# Altium footprint library SamacSys.PcbLib: 69 footprints (part 4 of 5)
Each footprint in its own frame and in the unit in brackets; x right, y up, seen from the top. Pads: shape width x height; smd on the part's side, far side on the other; paste and mask are expansions set on the pad; w line width, h text height; cw(c..) or ccw(c..) is an arc to the next point about the centre after c.
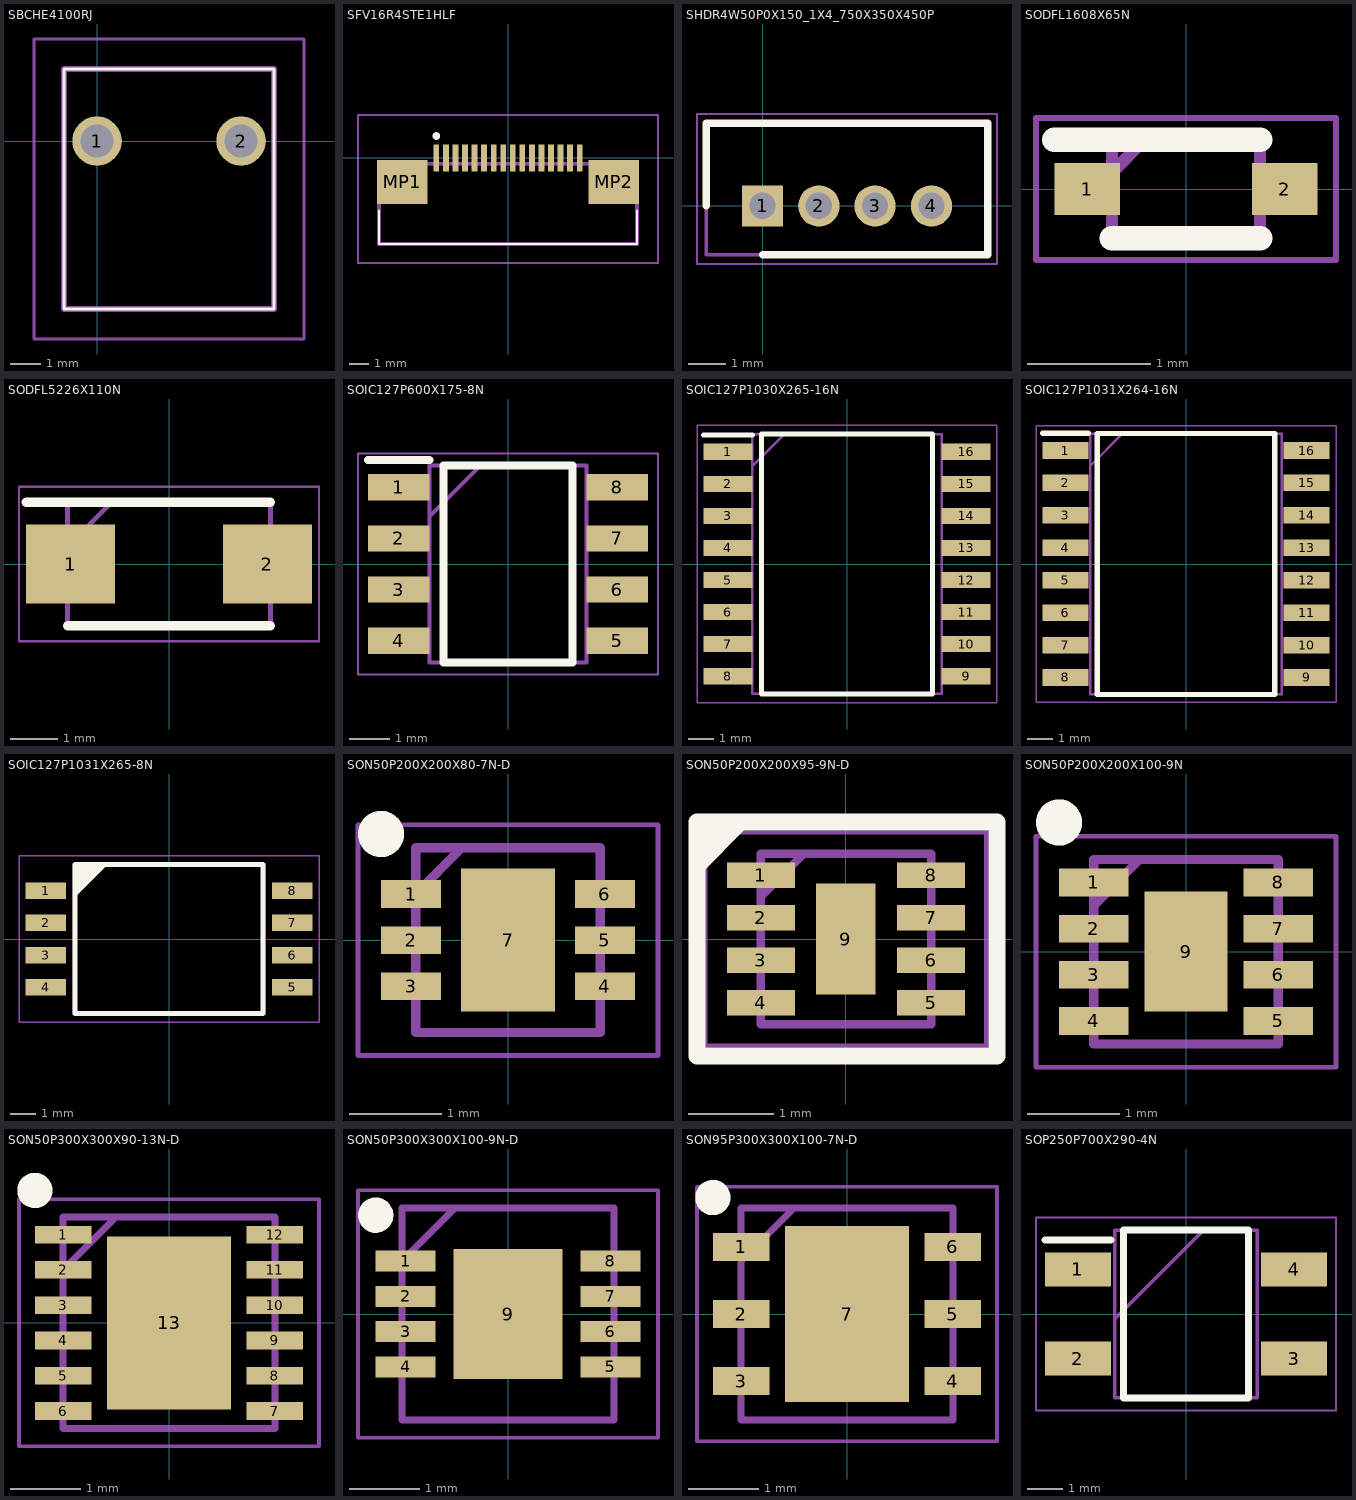
[diagram p3: the footprints below, top view; thin cyan lines are the x and y axes]

## SBCHE4100RJ [mm]
pads (2):
  round 1.65 hole 1.1: 1(0,0) 2(4.8,0)
Top Overlay:
  lines w0.1: -1.1,-5.6 -1.1,2.4 5.9,2.4 5.9,-5.6 -1.1,-5.6
Mechanical 13:
  lines w0.2: -1.1,-5.6 -1.1,2.4 5.9,2.4 5.9,-5.6 -1.1,-5.6
Mechanical 15:
  lines w0.1: -2.1,-6.6 -2.1,3.4 6.9,3.4 6.9,-6.6 -2.1,-6.6
3D body "SBCHE4100RJ.stp": height 20.1, standoff -5, extent -1.1,-5.6 5.9,2.4

## SFV16R4STE1HLF [mm]
pads (18):
  rect 0.3x1.4 smd: 1(-3.75,0) 2(-3.25,0) 3(-2.75,0) 4(-2.25,0) 5(-1.75,0) 6(-1.25,0) 7(-0.75,0) 8(-0.25,0) 9(0.25,0) 10(0.75,0) 11(1.25,0) 12(1.75,0) 13(2.25,0) 14(2.75,0) 15(3.25,0) 16(3.75,0)
  rect 2.65x2.3 smd: MP1(-5.525,-1.25) MP2(5.525,-1.25)
Top Overlay:
  lines w0.1: -6.75,-2.75 -6.75,-4.5 6.75,-4.5 6.75,-2.75
  lines w0.2: -3.75,1.05 ccw(c-3.75,1.15) -3.75,1.25 ccw(c-3.75,1.15) -3.75,1.05
Mechanical 13:
  lines w0.2: -6.75,-4.5 6.75,-4.5 6.75,-0.3 -6.75,-0.3 -6.75,-4.5
Mechanical 15:
  lines w0.1: -7.85,-5.5 7.85,-5.5 7.85,2.25 -7.85,2.25 -7.85,-5.5
3D body "SFV16R-4STE1HLF.stp": height 2.1, standoff 0, extent -6.75,-4.5 6.75,0.67

## SHDR4W50P0X150_1X4_750X350X450P [mm]
pads (4):
  rect 1.1x1.1 hole 0.7: 1(0,0)
  round 1.1 hole 0.7: 2(1.5,0) 3(3,0) 4(4.5,0)
Top Overlay:
  lines w0.2: -1.5,0 -1.5,2.2 6,2.2 6,-1.3 0,-1.3
Mechanical 13:
  lines w0.1: -1.5,-1.3 6,-1.3 6,2.2 -1.5,2.2 -1.5,-1.3
Mechanical 15:
  lines w0.05: -1.75,-1.55 6.25,-1.55 6.25,2.45 -1.75,2.45 -1.75,-1.55
3D body "B4B-ZR_LF__SN_.stp": height 4.5, standoff -2.7, extent -1.5,-1.75 6,1.75

## SODFL1608X65N [mm]
pads (2):
  rect 0.53x0.42 smd: 1(-0.8,0) 2(0.8,0)
Top Overlay:
  lines w0.2: -1.065,0.4 0.6,0.4 ; -0.6,-0.4 0.6,-0.4
Mechanical 13:
  lines w0.1: -0.6,0.135 -0.335,0.4 ; -0.6,-0.4 0.6,-0.4 0.6,0.4 -0.6,0.4 -0.6,-0.4
Mechanical 15:
  lines w0.05: -1.215,-0.575 1.215,-0.575 1.215,0.575 -1.215,0.575 -1.215,-0.575
3D body "PESD5V0X1UB,135.stp": height 0.61, standoff 0, extent -0.801,-0.415 0.799,0.415

## SODFL5226X110N [mm]
pads (2):
  rect 1.87x1.67 smd: 1(-2.075,0) 2(2.075,0)
Top Overlay:
  lines w0.2: -3.01,1.3 2.138,1.3 ; -2.138,-1.3 2.138,-1.3
Mechanical 13:
  lines w0.1: -2.138,0.365 -1.202,1.3 ; -2.138,-1.3 -2.138,1.3 2.138,1.3 2.138,-1.3 -2.138,-1.3
Mechanical 15:
  lines w0.05: -3.16,-1.625 -3.16,1.625 3.16,1.625 3.16,-1.625 -3.16,-1.625
3D body "STPS3L45AF.stp": height 1.1, standoff 0, extent -2.6,-1.3 2.6,1.3

## SOIC127P600X175-8N [mm]
pads (8):
  rect 1.525x0.65 smd: 1(-2.712,1.905) 2(-2.712,0.635) 3(-2.712,-0.635) 4(-2.712,-1.905) 5(2.712,-1.905) 6(2.712,-0.635) 7(2.712,0.635) 8(2.712,1.905)
Top Overlay:
  lines w0.2: -3.475,2.58 -1.95,2.58 ; -1.6,-2.45 -1.6,2.45 1.6,2.45 1.6,-2.45 -1.6,-2.45
Mechanical 13:
  lines w0.1: -1.95,1.18 -0.68,2.45 ; -1.95,-2.45 -1.95,2.45 1.95,2.45 1.95,-2.45 -1.95,-2.45
Mechanical 15:
  lines w0.05: -3.725,-2.75 -3.725,2.75 3.725,2.75 3.725,-2.75 -3.725,-2.75
3D body "NE555DR.stp": height 1.75, standoff 0, extent -3,-2.45 3,2.45

## SOIC127P1030X265-16N [mm]
pads (16):
  rect 1.95x0.65 smd: 1(-4.725,4.445) 2(-4.725,3.175) 3(-4.725,1.905) 4(-4.725,0.635) 5(-4.725,-0.635) 6(-4.725,-1.905) 7(-4.725,-3.175) 8(-4.725,-4.445) 9(4.725,-4.445) 10(4.725,-3.175) 11(4.725,-1.905) 12(4.725,-0.635) 13(4.725,0.635) 14(4.725,1.905) 15(4.725,3.175) 16(4.725,4.445)
Top Overlay:
  lines w0.2: -5.7,5.12 -3.75,5.12 ; -3.4,-5.15 -3.4,5.15 3.4,5.15 3.4,-5.15 -3.4,-5.15
Mechanical 13:
  lines w0.1: -3.75,3.88 -2.48,5.15 ; -3.75,-5.15 -3.75,5.15 3.75,5.15 3.75,-5.15 -3.75,-5.15
Mechanical 15:
  lines w0.05: -5.95,-5.5 -5.95,5.5 5.95,5.5 5.95,-5.5 -5.95,-5.5
3D body "ISO7731BDWR.stp": height 2.65, standoff 0, extent -5.15,-5.15 5.15,5.15

## SOIC127P1031X264-16N [mm]
pads (16):
  rect 1.8x0.65 smd: 1(-4.725,4.445) 2(-4.725,3.175) 3(-4.725,1.905) 4(-4.725,0.635) 5(-4.725,-0.635) 6(-4.725,-1.905) 7(-4.725,-3.175) 8(-4.725,-4.445) 9(4.725,-4.445) 10(4.725,-3.175) 11(4.725,-1.905) 12(4.725,-0.635) 13(4.725,0.635) 14(4.725,1.905) 15(4.725,3.175) 16(4.725,4.445)
Top Overlay:
  lines w0.2: -5.625,5.12 -3.825,5.12 ; -3.475,-5.105 -3.475,5.105 3.475,5.105 3.475,-5.105 -3.475,-5.105
Mechanical 13:
  lines w0.1: -3.75,3.835 -2.48,5.105 ; -3.75,-5.105 -3.75,5.105 3.75,5.105 3.75,-5.105 -3.75,-5.105
Mechanical 15:
  lines w0.05: -5.875,-5.405 -5.875,5.405 5.875,5.405 5.875,-5.405 -5.875,-5.405
3D body "MCA1101-20-3.stp": height 2.64, standoff 0, extent -5.155,-5.105 5.155,5.105

## SOIC127P1031X265-8N [mm]
pads (8):
  rect 1.6x0.65 smd: 1(-4.85,1.905) 2(-4.85,0.635) 3(-4.85,-0.635) 4(-4.85,-1.905) 5(4.85,-1.905) 6(4.85,-0.635) 7(4.85,0.635) 8(4.85,1.905)
Top Overlay:
  region: -3.7,1.65 -2.425,2.925 -3.7,2.925
  lines w0.2: -3.7,-2.925 3.7,-2.925 3.7,2.925 -3.7,2.925 -3.7,-2.925
Mechanical 13:
  lines w0.1: -3.75,1.655 -2.48,2.925 ; -3.75,-2.925 3.75,-2.925 3.75,2.925 -3.75,2.925 -3.75,-2.925
Mechanical 15:
  lines w0.05: -5.9,-3.275 5.9,-3.275 5.9,3.275 -5.9,3.275 -5.9,-3.275
3D body "ADM3050EBRIZ.stp": height 2.65, standoff 0, extent -5.155,-2.925 5.155,2.925

## SON50P200X200X80-7N-D [mm]
pads (7):
  rect 0.65x0.3 smd: 1(-1.05,0.5) 2(-1.05,0) 3(-1.05,-0.5) 4(1.05,-0.5) 5(1.05,0) 6(1.05,0.5)
  rect 1.02x1.55 smd: 7(0,0)
Top Overlay:
  circle w0.25: c-1.375,1.15 r0.125
Mechanical 13:
  lines w0.1: -1,0.5 -0.5,1 ; -1,-1 -1,1 1,1 1,-1 -1,-1
Mechanical 15:
  lines w0.05: -1.625,-1.25 -1.625,1.25 1.625,1.25 1.625,-1.25 -1.625,-1.25
3D body "LDL212PUR.stp": height 0.8, standoff 0, extent -1.05,-1 1.05,1

## SON50P200X200X95-9N-D [mm]
pads (9):
  rect 0.8x0.3 smd: 1(-1,0.75) 2(-1,0.25) 3(-1,-0.25) 4(-1,-0.75) 5(1,-0.75) 6(1,-0.25) 7(1,0.25) 8(1,0.75)
  rect 0.7x1.3 smd: 9(0,0)
Top Overlay:
  region: -1.75,1.375 -1.75,0.875 -1.7,0.775 -1.162,1.312
  lines w0.2: -1.75,-1.375 1.775,-1.375 1.775,1.375 -1.75,1.375 -1.75,-1.375
Mechanical 13:
  lines w0.1: -1,0.5 -0.5,1 ; -1,-1 -1,1 1,1 1,-1 -1,-1
Mechanical 15:
  lines w0.05: -1.65,-1.25 -1.65,1.25 1.65,1.25 1.65,-1.25 -1.65,-1.25
3D body "MIC2290YML_TR.stp": height 0.95, standoff 0, extent -1.05,-1 1.05,1

## SON50P200X200X100-9N [mm]
pads (9):
  rect 0.75x0.3 smd: 1(-1,0.75) 2(-1,0.25) 3(-1,-0.25) 4(-1,-0.75) 5(1,-0.75) 6(1,-0.25) 7(1,0.25) 8(1,0.75)
  rect 0.9x1.3 smd: 9(0,0)
Top Overlay:
  circle w0.25: c-1.375,1.4 r0.125
Mechanical 13:
  lines w0.1: -1,0.5 -0.5,1 ; -1,-1 -1,1 1,1 1,-1 -1,-1
Mechanical 15:
  lines w0.05: -1.625,-1.25 -1.625,1.25 1.625,1.25 1.625,-1.25 -1.625,-1.25
3D body "NCP5901BMNTBG.stp": height 1, standoff 0, extent -1.05,-1 1.05,1

## SON50P300X300X90-13N-D [mm]
pads (13):
  rect 0.8x0.25 smd: 1(-1.5,1.25) 2(-1.5,0.75) 3(-1.5,0.25) 4(-1.5,-0.25) 5(-1.5,-0.75) 6(-1.5,-1.25) 7(1.5,-1.25) 8(1.5,-0.75) 9(1.5,-0.25) 10(1.5,0.25) 11(1.5,0.75) 12(1.5,1.25)
  rect 1.75x2.45 smd: 13(0,0)
Top Overlay:
  circle w0.25: c-1.9,1.875 r0.125
Mechanical 13:
  lines w0.1: -1.5,0.75 -0.75,1.5 ; -1.5,-1.5 -1.5,1.5 1.5,1.5 1.5,-1.5 -1.5,-1.5
Mechanical 15:
  lines w0.05: -2.125,-1.75 -2.125,1.75 2.125,1.75 2.125,-1.75 -2.125,-1.75
3D body "MIC2253-06YML.stp": height 0.9, standoff 0, extent -1.55,-1.5 1.55,1.5

## SON50P300X300X100-9N-D [mm]
pads (9):
  rect 0.85x0.3 smd: 1(-1.45,0.75) 2(-1.45,0.25) 3(-1.45,-0.25) 4(-1.45,-0.75) 5(1.45,-0.75) 6(1.45,-0.25) 7(1.45,0.25) 8(1.45,0.75)
  rect 1.55x1.84 smd: 9(0,0)
Top Overlay:
  circle w0.25: c-1.875,1.4 r0.125
Mechanical 13:
  lines w0.1: -1.5,0.75 -0.75,1.5 ; -1.5,-1.5 -1.5,1.5 1.5,1.5 1.5,-1.5 -1.5,-1.5
Mechanical 15:
  lines w0.05: -2.125,-1.75 -2.125,1.75 2.125,1.75 2.125,-1.75 -2.125,-1.75
3D body "NCP81155MNTXG.stp": height 1, standoff 0, extent -1.55,-1.5 1.55,1.5

## SON95P300X300X100-7N-D [mm]
pads (7):
  rect 0.8x0.4 smd: 1(-1.5,0.95) 2(-1.5,0) 3(-1.5,-0.95) 4(1.5,-0.95) 5(1.5,0) 6(1.5,0.95)
  rect 1.75x2.5 smd: 7(0,0)
Top Overlay:
  circle w0.25: c-1.9,1.65 r0.125
Mechanical 13:
  lines w0.1: -1.5,0.75 -0.75,1.5 ; -1.5,-1.5 -1.5,1.5 1.5,1.5 1.5,-1.5 -1.5,-1.5
Mechanical 15:
  lines w0.05: -2.125,-1.8 -2.125,1.8 2.125,1.8 2.125,-1.8 -2.125,-1.8
3D body "LDL212PU50R.stp": height 1, standoff 0, extent -1.55,-1.5 1.55,1.5

## SOP250P700X290-4N [mm]
pads (4):
  rect 1.85x0.95 smd: 1(-3.025,1.25) 2(-3.025,-1.25) 3(3.025,-1.25) 4(3.025,1.25)
Top Overlay:
  lines w0.2: -3.95,2.075 -2.1,2.075 ; -1.75,-2.35 -1.75,2.35 1.75,2.35 1.75,-2.35 -1.75,-2.35
Mechanical 13:
  lines w0.1: -2,-0.15 0.5,2.35 ; -2,-2.35 -2,2.35 2,2.35 2,-2.35 -2,-2.35
Mechanical 15:
  lines w0.05: -4.2,-2.7 -4.2,2.7 4.2,2.7 4.2,-2.7 -4.2,-2.7
3D body "CDBHM240L-HF.stp": height 2.9, standoff 0, extent -3.5,-2.35 3.5,2.35